# Altium footprint library TI - ADC.PcbLib: 213 footprints (part 3 of 14)
Each footprint in its own frame and in the unit in brackets; x right, y up, seen from the top. Pads: shape width x height; smd on the part's side, far side on the other; paste and mask are expansions set on the pad; w line width, h text height; cw(c..) or ccw(c..) is an arc to the next point about the centre after c.
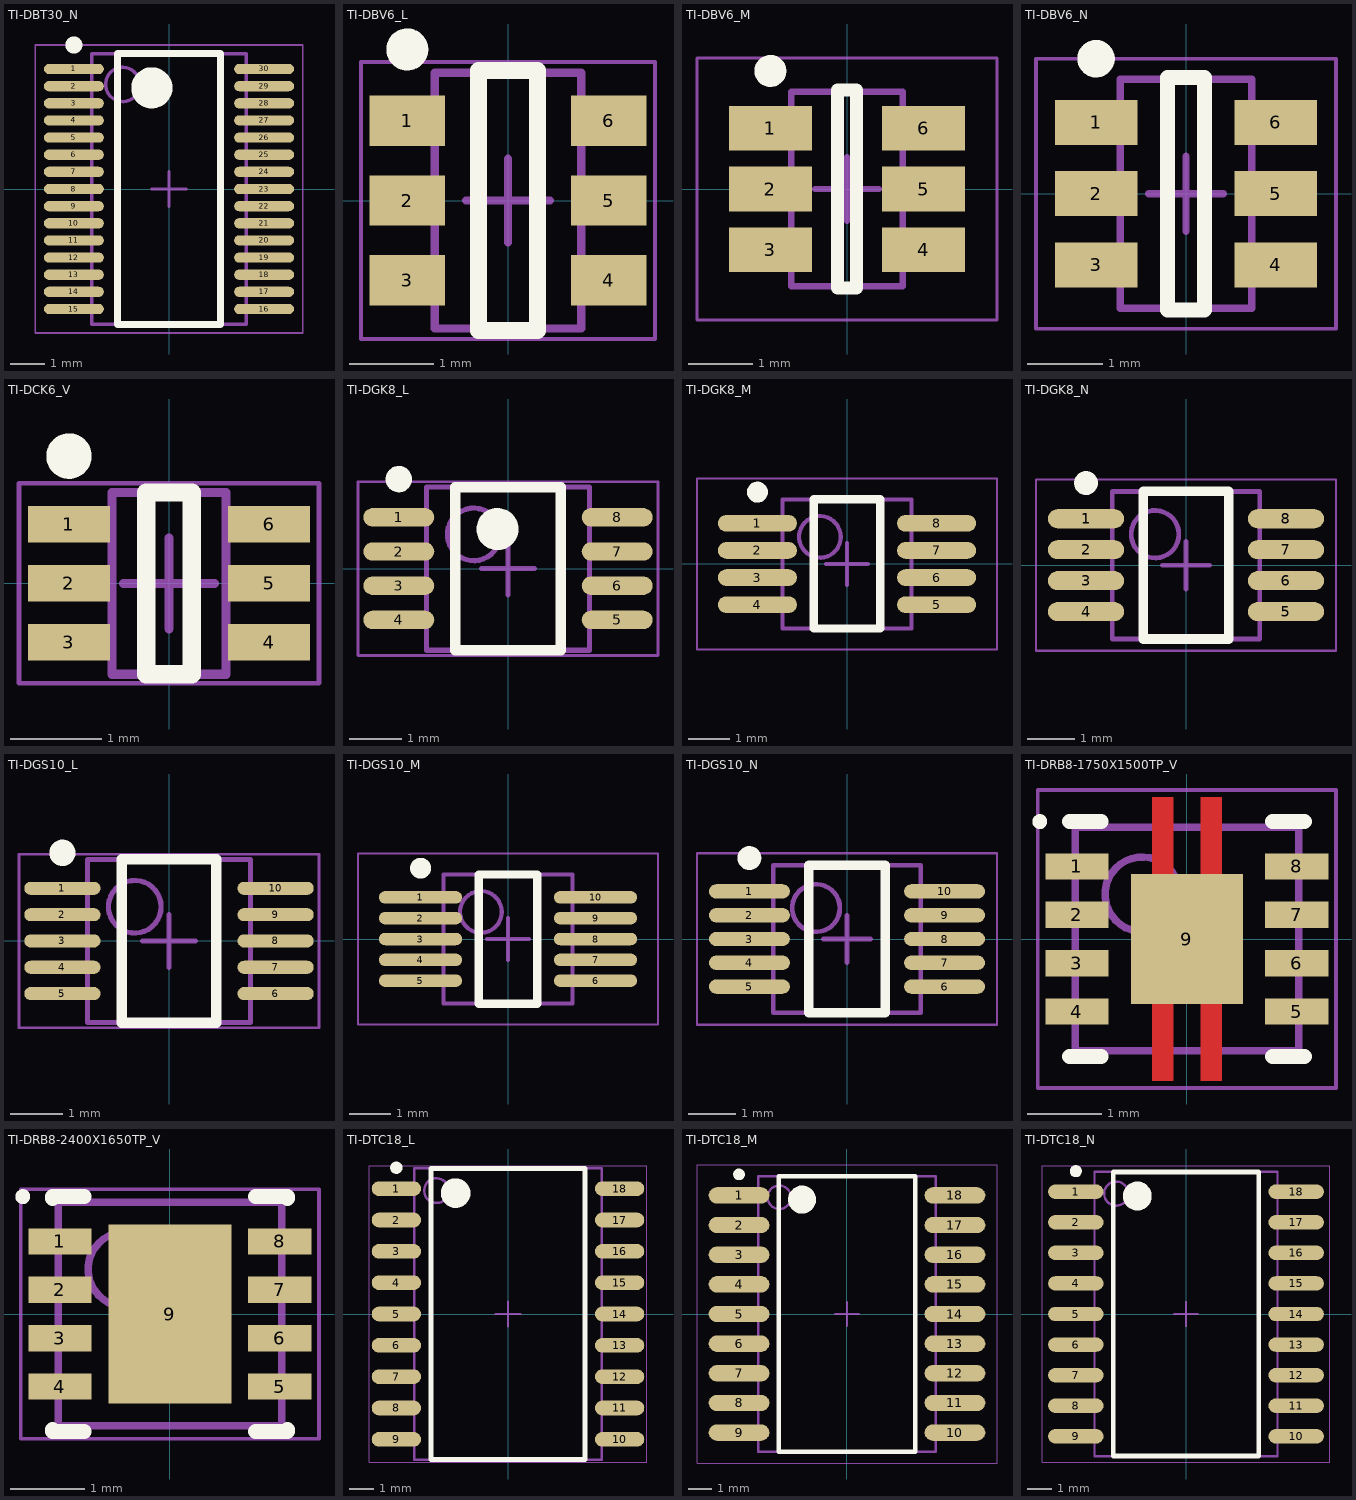
[diagram p2: the footprints below, top view; thin cyan lines are the x and y axes]

## TI-DBT30_N [mm] "SOP, 30-Leads, Body 7.8x4.4mm, Pitch 0.5mm, IPC Medium Density"
height 1.2
pads (30):
  oval 1.75x0.3 smd: 1(-2.775,3.5) 2(-2.775,3) 3(-2.775,2.5) 4(-2.775,2) 5(-2.775,1.5) 6(-2.775,1) 7(-2.775,0.5) 8(-2.775,0) 9(-2.775,-0.5) 10(-2.775,-1) 11(-2.775,-1.5) 12(-2.775,-2) 13(-2.775,-2.5) 14(-2.775,-3) 15(-2.775,-3.5) 16(2.775,-3.5) 17(2.775,-3) 18(2.775,-2.5) 19(2.775,-2) 20(2.775,-1.5) 21(2.775,-1) 22(2.775,-0.5) 23(2.775,0) 24(2.775,0.5) 25(2.775,1) 26(2.775,1.5) 27(2.775,2) 28(2.775,2.5) 29(2.775,3) 30(2.775,3.5)
Top Overlay:
  circle w0.6: c-0.5,2.95 r0.3
  circle w0.25: c-2.775,4.2 r0.125
  lines w0.2: -1.5,-3.95 1.5,-3.95 1.5,3.95 -1.5,3.95 -1.5,-3.95
Mechanical 13:
  circle w0.1: c-1.35,3.05 r0.5
  lines w0.1: -2.25,-3.95 2.25,-3.95 2.25,3.95 -2.25,3.95 -2.25,-3.95
Mechanical 15:
  lines w0.05: -3.9,-4.2 3.9,-4.2 3.9,4.2 -3.9,4.2 -3.9,-4.2
  lines w0.1: -0.5,0 0.5,0 ; 0,-0.5 0,0.5
3D body: height 1.2, standoff 0.05, extent -2.25,-3.95 2.25,3.95

## TI-DBV6_L [mm] "SOT23, 6-Leads, Body 2.9x1.6mm, Pitch 0.95mm, IPC High Density"
height 1.45
pads (6):
  rect 0.9x0.6 smd: 1(-1.2,0.95) 2(-1.2,0) 3(-1.2,-0.95) 4(1.2,-0.95) 5(1.2,0) 6(1.2,0.95)
Top Overlay:
  circle w0.25: c-1.2,1.8 r0.125
  lines w0.2: -0.35,-1.55 -0.35,1.55 0.35,1.55 0.35,-1.55 -0.35,-1.55
Mechanical 13:
  lines w0.1: -0.875,-1.525 0.875,-1.525 0.875,1.525 -0.875,1.525 -0.875,-1.525
Mechanical 15:
  lines w0.05: -1.75,-1.65 1.75,-1.65 1.75,1.65 -1.75,1.65 -1.75,-1.65
  lines w0.1: -0.5,0 0.5,0 ; 0,-0.5 0,0.5
3D body: height 1.45, standoff 0, extent -0.875,-1.525 0.875,1.525

## TI-DBV6_M [mm] "SOT23, 6-Leads, Body 2.9x1.6mm, Pitch 0.95mm, IPC Low Density"
height 1.45
pads (6):
  rect 1.3x0.7 smd: 1(-1.2,0.95) 2(-1.2,0) 3(-1.2,-0.95) 4(1.2,-0.95) 5(1.2,0) 6(1.2,0.95)
Top Overlay:
  circle w0.25: c-1.2,1.85 r0.125
  lines w0.2: -0.15,-1.55 -0.15,1.55 0.15,1.55 0.15,-1.55 -0.15,-1.55
Mechanical 13:
  lines w0.1: -0.875,-1.525 0.875,-1.525 0.875,1.525 -0.875,1.525 -0.875,-1.525
Mechanical 15:
  lines w0.05: -2.35,-2.05 2.35,-2.05 2.35,2.05 -2.35,2.05 -2.35,-2.05
  lines w0.1: -0.5,0 0.5,0 ; 0,-0.5 0,0.5
3D body: height 1.45, standoff 0, extent -0.875,-1.525 0.875,1.525

## TI-DBV6_N [mm] "SOT23, 6-Leads, Body 2.9x1.6mm, Pitch 0.95mm, IPC Medium Density"
height 1.45
pads (6):
  rect 1.1x0.6 smd: 1(-1.2,0.95) 2(-1.2,0) 3(-1.2,-0.95) 4(1.2,-0.95) 5(1.2,0) 6(1.2,0.95)
Top Overlay:
  circle w0.25: c-1.2,1.8 r0.125
  lines w0.2: -0.25,-1.55 0.25,-1.55 0.25,1.55 -0.25,1.55 -0.25,-1.55
Mechanical 13:
  lines w0.1: -0.875,-1.525 -0.875,1.525 0.875,1.525 0.875,-1.525 -0.875,-1.525
Mechanical 15:
  lines w0.05: -2,-1.8 -2,1.8 2,1.8 2,-1.8 -2,-1.8
  lines w0.1: -0.5,0 0.5,0 ; 0,-0.5 0,0.5
3D body: height 1.45, standoff 0, extent -0.875,-1.525 0.875,1.525

## TI-DCK6_V [mm] "SOT23, 6-Leads, Body 2x1.25mm, Pitch 0.65mm"
height 1.1
pads (6):
  rect 0.9x0.4 smd: 1(-1.1,0.65) 2(-1.1,0) 3(-1.1,-0.65) 4(1.1,-0.65) 5(1.1,0) 6(1.1,0.65)
Top Overlay:
  circle w0.25: c-1.1,1.4 r0.125
  lines w0.2: -0.25,-1 0.25,-1 0.25,1 -0.25,1 -0.25,-1
Mechanical 13:
  lines w0.1: -0.625,-1 -0.625,1 0.625,1 0.625,-1 -0.625,-1
Mechanical 15:
  lines w0.05: -1.65,-1.1 -1.65,1.1 1.65,1.1 1.65,-1.1 -1.65,-1.1
  lines w0.1: -0.5,0 0.5,0 ; 0,-0.5 0,0.5
3D body: height 1.1, standoff 0, extent -0.625,-1 0.625,1

## TI-DGK8_L [mm] "SOP, 8-Leads, Body 3x3mm, Pitch 0.65mm, IPC High Density"
height 1.1
pads (8):
  oval 1.35x0.35 smd: 1(-2.075,0.975) 2(-2.075,0.325) 3(-2.075,-0.325) 4(-2.075,-0.975) 5(2.075,-0.975) 6(2.075,-0.325) 7(2.075,0.325) 8(2.075,0.975)
Top Overlay:
  circle w0.25: c-2.075,1.7 r0.125
  circle w0.4: c-0.2,0.75 r0.2
  lines w0.2: -1,-1.55 -1,1.55 1,1.55 1,-1.55 -1,-1.55
Mechanical 13:
  circle w0.1: c-0.65,0.65 r0.5
  lines w0.1: -1.55,-1.55 -1.55,1.55 1.55,1.55 1.55,-1.55 -1.55,-1.55
Mechanical 15:
  lines w0.05: -2.85,-1.65 -2.85,1.65 2.85,1.65 2.85,-1.65 -2.85,-1.65
  lines w0.1: -0.5,0 0.5,0 ; 0,-0.5 0,0.5
3D body: height 1.1, standoff 0.05, extent -1.55,-1.55 1.55,1.55

## TI-DGK8_M [mm] "SOP, 8-Leads, Body 3x3mm, Pitch 0.65mm, IPC Low Density"
height 1.1
pads (8):
  oval 1.9x0.4 smd: 1(-2.15,0.975) 2(-2.15,0.325) 3(-2.15,-0.325) 4(-2.15,-0.975) 5(2.15,-0.975) 6(2.15,-0.325) 7(2.15,0.325) 8(2.15,0.975)
Top Overlay:
  circle w0.25: c-2.15,1.725 r0.125
  lines w0.2: -0.8,-1.55 0.8,-1.55 0.8,1.55 -0.8,1.55 -0.8,-1.55
Mechanical 13:
  circle w0.1: c-0.65,0.65 r0.5
  lines w0.1: -1.55,-1.55 1.55,-1.55 1.55,1.55 -1.55,1.55 -1.55,-1.55
Mechanical 15:
  lines w0.05: -3.6,-2.05 3.6,-2.05 3.6,2.05 -3.6,2.05 -3.6,-2.05
  lines w0.1: -0.5,0 0.5,0 ; 0,-0.5 0,0.5
3D body: height 1.1, standoff 0.05, extent -1.55,-1.55 1.55,1.55

## TI-DGK8_N [mm] "SOP, 8-Leads, Body 3x3mm, Pitch 0.65mm, IPC Medium Density"
height 1.1
pads (8):
  oval 1.6x0.4 smd: 1(-2.1,0.975) 2(-2.1,0.325) 3(-2.1,-0.325) 4(-2.1,-0.975) 5(2.1,-0.975) 6(2.1,-0.325) 7(2.1,0.325) 8(2.1,0.975)
Top Overlay:
  circle w0.25: c-2.1,1.725 r0.125
  lines w0.2: -0.9,-1.55 -0.9,1.55 0.9,1.55 0.9,-1.55 -0.9,-1.55
Mechanical 13:
  circle w0.1: c-0.65,0.65 r0.5
  lines w0.1: -1.55,-1.55 -1.55,1.55 1.55,1.55 1.55,-1.55 -1.55,-1.55
Mechanical 15:
  lines w0.05: -3.15,-1.8 -3.15,1.8 3.15,1.8 3.15,-1.8 -3.15,-1.8
  lines w0.1: -0.5,0 0.5,0 ; 0,-0.5 0,0.5
3D body: height 1.1, standoff 0.05, extent -1.55,-1.55 1.55,1.55

## TI-DGS10_L [mm] "SOP, 10-Leads, Body 3x3mm, Pitch 0.5mm, IPC High Density"
height 1.1
pads (10):
  oval 1.45x0.25 smd: 1(-2.025,1) 2(-2.025,0.5) 3(-2.025,0) 4(-2.025,-0.5) 5(-2.025,-1) 6(2.025,-1) 7(2.025,-0.5) 8(2.025,0) 9(2.025,0.5) 10(2.025,1)
Top Overlay:
  circle w0.25: c-2.025,1.675 r0.125
  lines w0.2: -0.9,-1.55 0.9,-1.55 0.9,1.55 -0.9,1.55 -0.9,-1.55
Mechanical 13:
  circle w0.1: c-0.65,0.65 r0.5
  lines w0.1: -1.55,-1.55 1.55,-1.55 1.55,1.55 -1.55,1.55 -1.55,-1.55
Mechanical 15:
  lines w0.05: -2.85,-1.65 2.85,-1.65 2.85,1.65 -2.85,1.65 -2.85,-1.65
  lines w0.1: -0.5,0 0.5,0 ; 0,-0.5 0,0.5
3D body: height 1.1, standoff 0.05, extent -1.55,-1.55 1.55,1.55

## TI-DGS10_M [mm] "SOP, 10-Leads, Body 3x3mm, Pitch 0.5mm, IPC Low Density"
height 1.1
pads (10):
  oval 2x0.3 smd: 1(-2.1,1) 2(-2.1,0.5) 3(-2.1,0) 4(-2.1,-0.5) 5(-2.1,-1) 6(2.1,-1) 7(2.1,-0.5) 8(2.1,0) 9(2.1,0.5) 10(2.1,1)
Top Overlay:
  circle w0.25: c-2.1,1.7 r0.125
  lines w0.2: -0.7,-1.55 0.7,-1.55 0.7,1.55 -0.7,1.55 -0.7,-1.55
Mechanical 13:
  circle w0.1: c-0.65,0.65 r0.5
  lines w0.1: -1.55,-1.55 1.55,-1.55 1.55,1.55 -1.55,1.55 -1.55,-1.55
Mechanical 15:
  lines w0.05: -3.6,-2.05 3.6,-2.05 3.6,2.05 -3.6,2.05 -3.6,-2.05
  lines w0.1: -0.5,0 0.5,0 ; 0,-0.5 0,0.5
3D body: height 1.1, standoff 0.05, extent -1.55,-1.55 1.55,1.55

## TI-DGS10_N [mm] "SOP, 10-Leads, Body 3x3mm, Pitch 0.5mm, IPC Medium Density"
height 1.1
pads (10):
  oval 1.7x0.3 smd: 1(-2.05,1) 2(-2.05,0.5) 3(-2.05,0) 4(-2.05,-0.5) 5(-2.05,-1) 6(2.05,-1) 7(2.05,-0.5) 8(2.05,0) 9(2.05,0.5) 10(2.05,1)
Top Overlay:
  circle w0.25: c-2.05,1.7 r0.125
  lines w0.2: -0.8,-1.55 -0.8,1.55 0.8,1.55 0.8,-1.55 -0.8,-1.55
Mechanical 13:
  circle w0.1: c-0.65,0.65 r0.5
  lines w0.1: -1.55,-1.55 -1.55,1.55 1.55,1.55 1.55,-1.55 -1.55,-1.55
Mechanical 15:
  lines w0.05: -3.15,-1.8 -3.15,1.8 3.15,1.8 3.15,-1.8 -3.15,-1.8
  lines w0.1: -0.5,0 0.5,0 ; 0,-0.5 0,0.5
3D body: height 1.1, standoff 0.05, extent -1.55,-1.55 1.55,1.55

## TI-DRB8-1750X1500TP_V [mm] "SON, 8-Leads, Body 3x3mm, Pitch 0.65mm, Thermal Pad 1.50 x 3.8mm"
height 1
pads (9):
  rect 0.85x0.35 smd: 1(-1.475,0.975) 2(-1.475,0.325) 3(-1.475,-0.325) 4(-1.475,-0.975) 5(1.475,-0.975) 6(1.475,-0.325) 7(1.475,0.325) 8(1.475,0.975)
  rect 1.5x1.75 smd: 9(0,0)
Top Layer:
  region: -0.185,0.875 -0.185,1.9 -0.465,1.9 -0.465,0.875
  region: 0.185,-0.875 0.185,-1.9 0.465,-1.9 0.465,-0.875
  region: -0.185,-0.875 -0.185,-1.9 -0.465,-1.9 -0.465,-0.875
  region: 0.185,0.875 0.185,1.9 0.465,1.9 0.465,0.875
Top Overlay:
  circle w0.1: c-1.975,1.575 r0.05
  lines w0.2: -1.575,-1.575 -1.15,-1.575 ; -1.575,1.575 -1.15,1.575 ; 1.15,-1.575 1.575,-1.575 ; 1.15,1.575 1.575,1.575
Top Paste:
  region: 0.185,0.875 0.185,1.9 0.465,1.9 0.465,0.875
  region: -0.185,-0.875 -0.185,-1.9 -0.465,-1.9 -0.465,-0.875
  region: 0.185,-0.875 0.185,-1.9 0.465,-1.9 0.465,-0.875
  region: -0.185,0.875 -0.185,1.9 -0.465,1.9 -0.465,0.875
Mechanical 13:
  circle w0.1: c-0.6,0.6 r0.5
  lines w0.1: -1.5,-1.5 1.5,-1.5 1.5,1.5 -1.5,1.5 -1.5,-1.5
Mechanical 15:
  lines w0.05: -2,-2 -2,-1.675 -2,1.675 -2,2 2,2 2,1.675 2,-1.675 2,-2 -2,-2
  lines w0.1: -0.5,0 0.5,0 ; 0,-0.5 0,0.5
3D body: height 1, standoff 0, extent -1.5,-1.5 1.5,1.5

## TI-DRB8-2400X1650TP_V [mm] "SON, 8-Leads, Body 3x3mm, Pitch 0.65mm, Thermal Pad 2.4x1.65mm"
height 1
pads (9):
  rect 0.85x0.35 smd: 1(-1.475,0.975) 2(-1.475,0.325) 3(-1.475,-0.325) 4(-1.475,-0.975) 5(1.475,-0.975) 6(1.475,-0.325) 7(1.475,0.325) 8(1.475,0.975)
  rect 1.65x2.4 smd: 9(0,0)
Top Overlay:
  circle w0.1: c-1.975,1.575 r0.05
  lines w0.2: -1.575,-1.55 -1.575,-1.575 -1.15,-1.575 ; -1.575,1.55 -1.575,1.575 -1.15,1.575 ; 1.15,-1.575 1.575,-1.575 1.575,-1.55 ; 1.15,1.575 1.575,1.575 1.575,1.55
Mechanical 13:
  circle w0.1: c-0.6,0.6 r0.5
  lines w0.1: -1.5,-1.5 1.5,-1.5 1.5,1.5 -1.5,1.5 -1.5,-1.5
Mechanical 15:
  lines w0.05: -2,-1.675 2,-1.675 2,1.675 -2,1.675 -2,-1.675
  lines w0.1: -0.5,0 0.5,0 ; 0,-0.5 0,0.5
3D body: height 1, standoff 0, extent -1.5,-1.5 1.5,1.5

## TI-DTC18_L [mm] "SOP, 18-Leads, Body 11.5x7.5mm, Pitch 1.27mm, IPC High Density"
height 2.65
pads (18):
  oval 2x0.6 smd: 1(-4.525,5.08) 2(-4.525,3.81) 3(-4.525,2.54) 4(-4.525,1.27) 5(-4.525,0) 6(-4.525,-1.27) 7(-4.525,-2.54) 8(-4.525,-3.81) 9(-4.525,-5.08) 10(4.525,-5.08) 11(4.525,-3.81) 12(4.525,-2.54) 13(4.525,-1.27) 14(4.525,0) 15(4.525,1.27) 16(4.525,2.54) 17(4.525,3.81) 18(4.525,5.08)
Top Overlay:
  circle w0.6: c-2.125,4.9 r0.3
  circle w0.25: c-4.525,5.93 r0.125
  lines w0.2: -3.125,-5.9 3.125,-5.9 3.125,5.9 -3.125,5.9 -3.125,-5.9
Mechanical 13:
  circle w0.1: c-2.9,5 r0.5
  lines w0.1: -3.8,-5.9 3.8,-5.9 3.8,5.9 -3.8,5.9 -3.8,-5.9
Mechanical 15:
  lines w0.05: -5.625,-6 5.625,-6 5.625,6 -5.625,6 -5.625,-6
  lines w0.1: -0.5,0 0.5,0 ; 0,-0.5 0,0.5
3D body: height 2.65, standoff 0.1, extent -3.8,-5.9 3.8,5.9

## TI-DTC18_M [mm] "SOP, 18-Leads, Body 11.5x7.5mm, Pitch 1.27mm, IPC Low Density"
height 2.65
pads (18):
  oval 2.6x0.7 smd: 1(-4.625,5.08) 2(-4.625,3.81) 3(-4.625,2.54) 4(-4.625,1.27) 5(-4.625,0) 6(-4.625,-1.27) 7(-4.625,-2.54) 8(-4.625,-3.81) 9(-4.625,-5.08) 10(4.625,-5.08) 11(4.625,-3.81) 12(4.625,-2.54) 13(4.625,-1.27) 14(4.625,0) 15(4.625,1.27) 16(4.625,2.54) 17(4.625,3.81) 18(4.625,5.08)
Top Overlay:
  circle w0.6: c-1.925,4.9 r0.3
  circle w0.25: c-4.625,5.98 r0.125
  lines w0.2: -2.925,-5.9 2.925,-5.9 2.925,5.9 -2.925,5.9 -2.925,-5.9
Mechanical 13:
  circle w0.1: c-2.9,5 r0.5
  lines w0.1: -3.8,-5.9 3.8,-5.9 3.8,5.9 -3.8,5.9 -3.8,-5.9
Mechanical 15:
  lines w0.05: -6.425,-6.4 6.425,-6.4 6.425,6.4 -6.425,6.4 -6.425,-6.4
  lines w0.1: -0.5,0 0.5,0 ; 0,-0.5 0,0.5
3D body: height 2.65, standoff 0.1, extent -3.8,-5.9 3.8,5.9

## TI-DTC18_N [mm] "SOP, 18-Leads, Body 11.5x7.5mm, Pitch 1.27mm, IPC Medium Density"
height 2.65
pads (18):
  oval 2.3x0.6 smd: 1(-4.575,5.08) 2(-4.575,3.81) 3(-4.575,2.54) 4(-4.575,1.27) 5(-4.575,0) 6(-4.575,-1.27) 7(-4.575,-2.54) 8(-4.575,-3.81) 9(-4.575,-5.08) 10(4.575,-5.08) 11(4.575,-3.81) 12(4.575,-2.54) 13(4.575,-1.27) 14(4.575,0) 15(4.575,1.27) 16(4.575,2.54) 17(4.575,3.81) 18(4.575,5.08)
Top Overlay:
  circle w0.6: c-2.025,4.9 r0.3
  circle w0.25: c-4.575,5.93 r0.125
  lines w0.2: -3.025,-5.9 3.025,-5.9 3.025,5.9 -3.025,5.9 -3.025,-5.9
Mechanical 13:
  circle w0.1: c-2.9,5 r0.5
  lines w0.1: -3.8,-5.9 3.8,-5.9 3.8,5.9 -3.8,5.9 -3.8,-5.9
Mechanical 15:
  lines w0.05: -5.975,-6.15 5.975,-6.15 5.975,6.15 -5.975,6.15 -5.975,-6.15
  lines w0.1: -0.5,0 0.5,0 ; 0,-0.5 0,0.5
3D body: height 2.65, standoff 0.1, extent -3.8,-5.9 3.8,5.9